# Altium footprint library PMEG4050EP,115.PcbLib: 1 footprints
Each footprint in its own frame and in the unit in brackets; x right, y up, seen from the top. Pads: shape width x height; smd on the part's side, far side on the other; paste and mask are expansions set on the pad; w line width, h text height; cw(c..) or ccw(c..) is an arc to the next point about the centre after c.
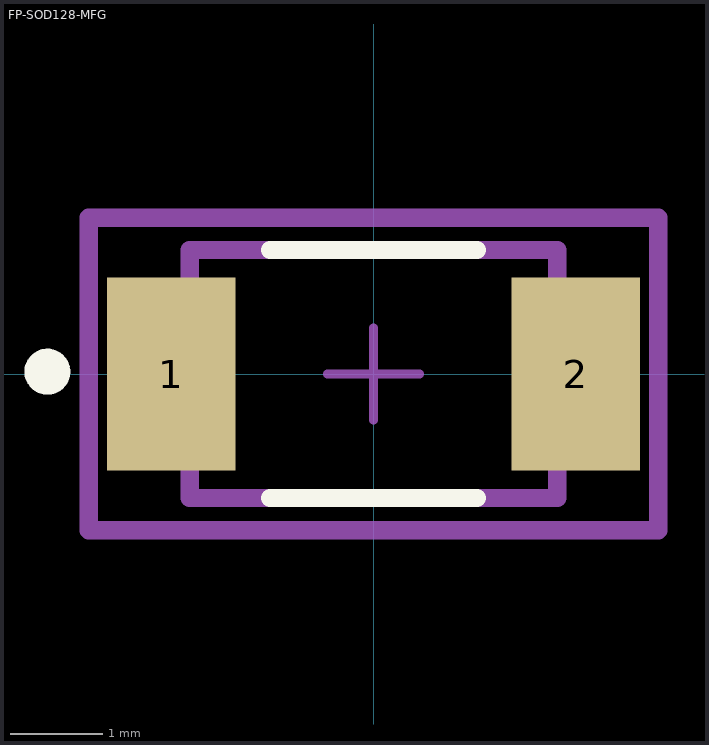
[diagram p0: the footprint, top view; thin cyan lines are the x and y axes]

## FP-SOD128-MFG [mm]
pads (2):
  rect 1.4x2.1 smd paste-1000 mask+0: 1(-2.2,0) 2(2.2,0)
Top Overlay:
  circle w0.25: c-3.55,0.025 r0.125
  lines w0.2: -1.125,-1.35 1.125,-1.35 ; -1.125,1.35 1.125,1.35
Top Paste:
  rectangle: -2.8,-0.95 -1.6,0.95
  rectangle: 1.6,-0.95 2.8,0.95
Mechanical 5:
  lines w0.2: -3.1,-1.7 3.1,-1.7 3.1,1.7 -3.1,1.7 -3.1,-1.7
  text ".Designator" at 0,0.188 h1
Mechanical 13:
  lines w0.2: -2,-1.35 2,-1.35 2,1.35 -2,1.35 -2,-1.35
Mechanical 15:
  lines w0.2: -3.1,-1.7 3.1,-1.7 3.1,1.7 -3.1,1.7 -3.1,-1.7
Mechanical 16:
  lines w0.1: -0.5,0 0.5,0 ; 0,-0.5 0,0.5
3D body "Diode_Nexperia_PMEG40T50EPX_eec.STEP": height 0.25, standoff 0, extent -3.1,-1.7 3.1,1.7